# Altium footprint library Molex_Nano-Fit_Series.PcbLib: 1 footprints
Each footprint in its own frame and in the unit in brackets; x right, y up, seen from the top. Pads: shape width x height; smd on the part's side, far side on the other; paste and mask are expansions set on the pad; w line width, h text height; cw(c..) or ccw(c..) is an arc to the next point about the centre after c.
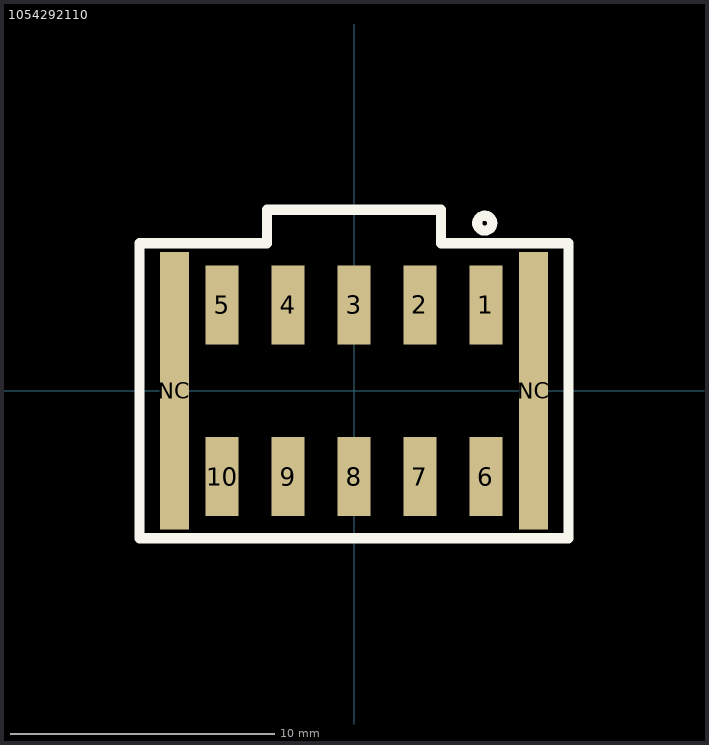
[diagram p0: the footprint, top view; thin cyan lines are the x and y axes]

## 1054292110 [mm]
pads (12):
  rect 1.24x3 smd: 1(5,3.25) 2(2.5,3.25) 3(0,3.25) 4(-2.5,3.25) 5(-5,3.25) 6(5,-3.25) 7(2.5,-3.25) 8(0,-3.25) 9(-2.5,-3.25) 10(-5,-3.25)
  rect 1.1x10.5 smd: NC(-6.805,0) NC(6.805,0)
Top Overlay:
  circle w0.381: c4.953,6.35 r0.284
  lines w0.381: -8.128,-5.588 8.128,-5.588 8.128,5.588 3.302,5.588 3.302,6.858 -3.302,6.858 -3.302,5.588 -8.128,5.588 -8.128,-5.588
3D body "1054292110.stp": height 11.17, standoff 0.01, extent -7.865,-4.55 7.865,6.2